# Altium footprint library OKI-78SR-5_1.5-W36H-C.PcbLib: 1 footprints
Each footprint in its own frame and in the unit in brackets; x right, y up, seen from the top. Pads: shape width x height; smd on the part's side, far side on the other; paste and mask are expansions set on the pad; w line width, h text height; cw(c..) or ccw(c..) is an arc to the next point about the centre after c.
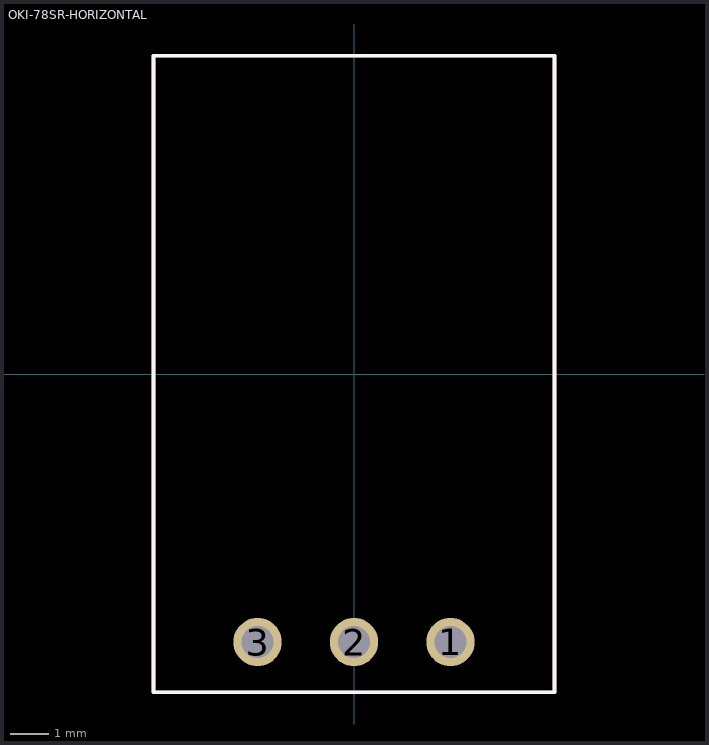
[diagram p0: the footprint, top view; thin cyan lines are the x and y axes]

## OKI-78SR-HORIZONTAL [mm]
pads (3):
  round 1.252 hole 0.835: 1(2.5,-6.95) 2(0,-6.95) 3(-2.5,-6.95)
L26-Silk Screen Top (Multiple PADS layers...):
  lines w0.1: -5.2,-8.25 5.2,-8.25 5.2,8.25 -5.2,8.25 -5.2,-8.25
L15 (Multiple PADS layers...):
  lines w0.1: -5.2,-8.25 5.2,-8.25 5.2,8.25 -5.2,8.25 -5.2,-8.25